# EAGLE library part LSM9DS1 (library CPSS_SENSOR)
STMicroelectronics iNEMO inertial module. Includes Accelerometer, Gyroscope, Magnetometer.
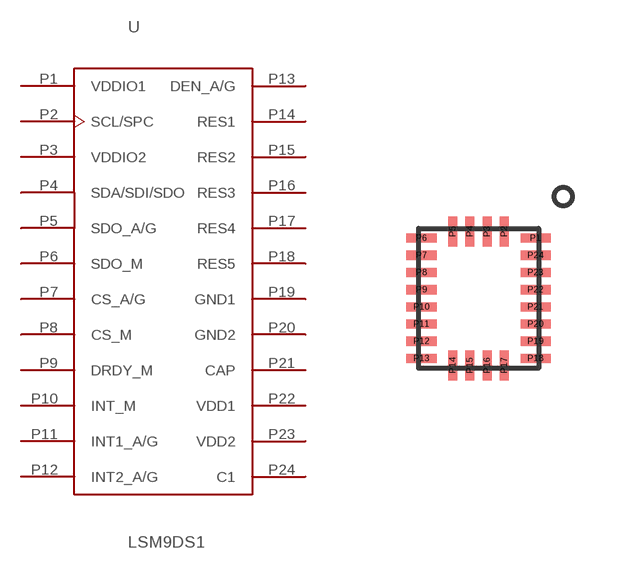
[diagram p1: symbol with the pads of LGA-24; footprint LGA-24]

Designator prefix U

## LSM9DS1  [LGA-24]
P1  VDDIO1  pwr
P2  SCL/SPC  in
P3  VDDIO2  pwr
P4  SDA/SDI/SDO
P5  SDO_A/G  out
P6  SDO_M  out
P7  CS_A/G  in
P8  CS_M  in
P9  DRDY_M
P10  INT_M
P11  INT1_A/G
P12  INT2_A/G
P13  DEN_A/G
P14  RES1  sup
P15  RES2  sup
P16  RES3  sup
P17  RES4  sup
P18  RES5  sup
P19  GND1  pwr
P20  GND2  pwr
P21  CAP  pas
P22  VDD1  pwr
P23  VDD2  pwr
P24  C1  pas

## Footprint LGA-24 (pad centres in mm)
smd 0.75 x 0.23: P1 1.425,1.505; P6 -1.425,1.505; P7 -1.425,1.075; P8 -1.425,0.645; P9 -1.425,0.215; P10 -1.425,-0.215; P11 -1.425,-0.645; P12 -1.425,-1.075; P13 -1.425,-1.505; P18 1.425,-1.505; P19 1.425,-1.075; P20 1.425,-0.645; P21 1.425,-0.215; P22 1.425,0.215; P23 1.425,0.645; P24 1.425,1.075
smd 0.23 x 0.75: P2 0.645,1.675; P3 0.215,1.675; P4 -0.215,1.675; P5 -0.645,1.675; P14 -0.645,-1.675; P15 -0.215,-1.675; P16 0.215,-1.675; P17 0.645,-1.675